# EAGLE library part EFM32TG210F8 (library EnergyMicro)
EFM32TG210F8 Tiny Microcontroller in 6mm x 6mm QFN32 package
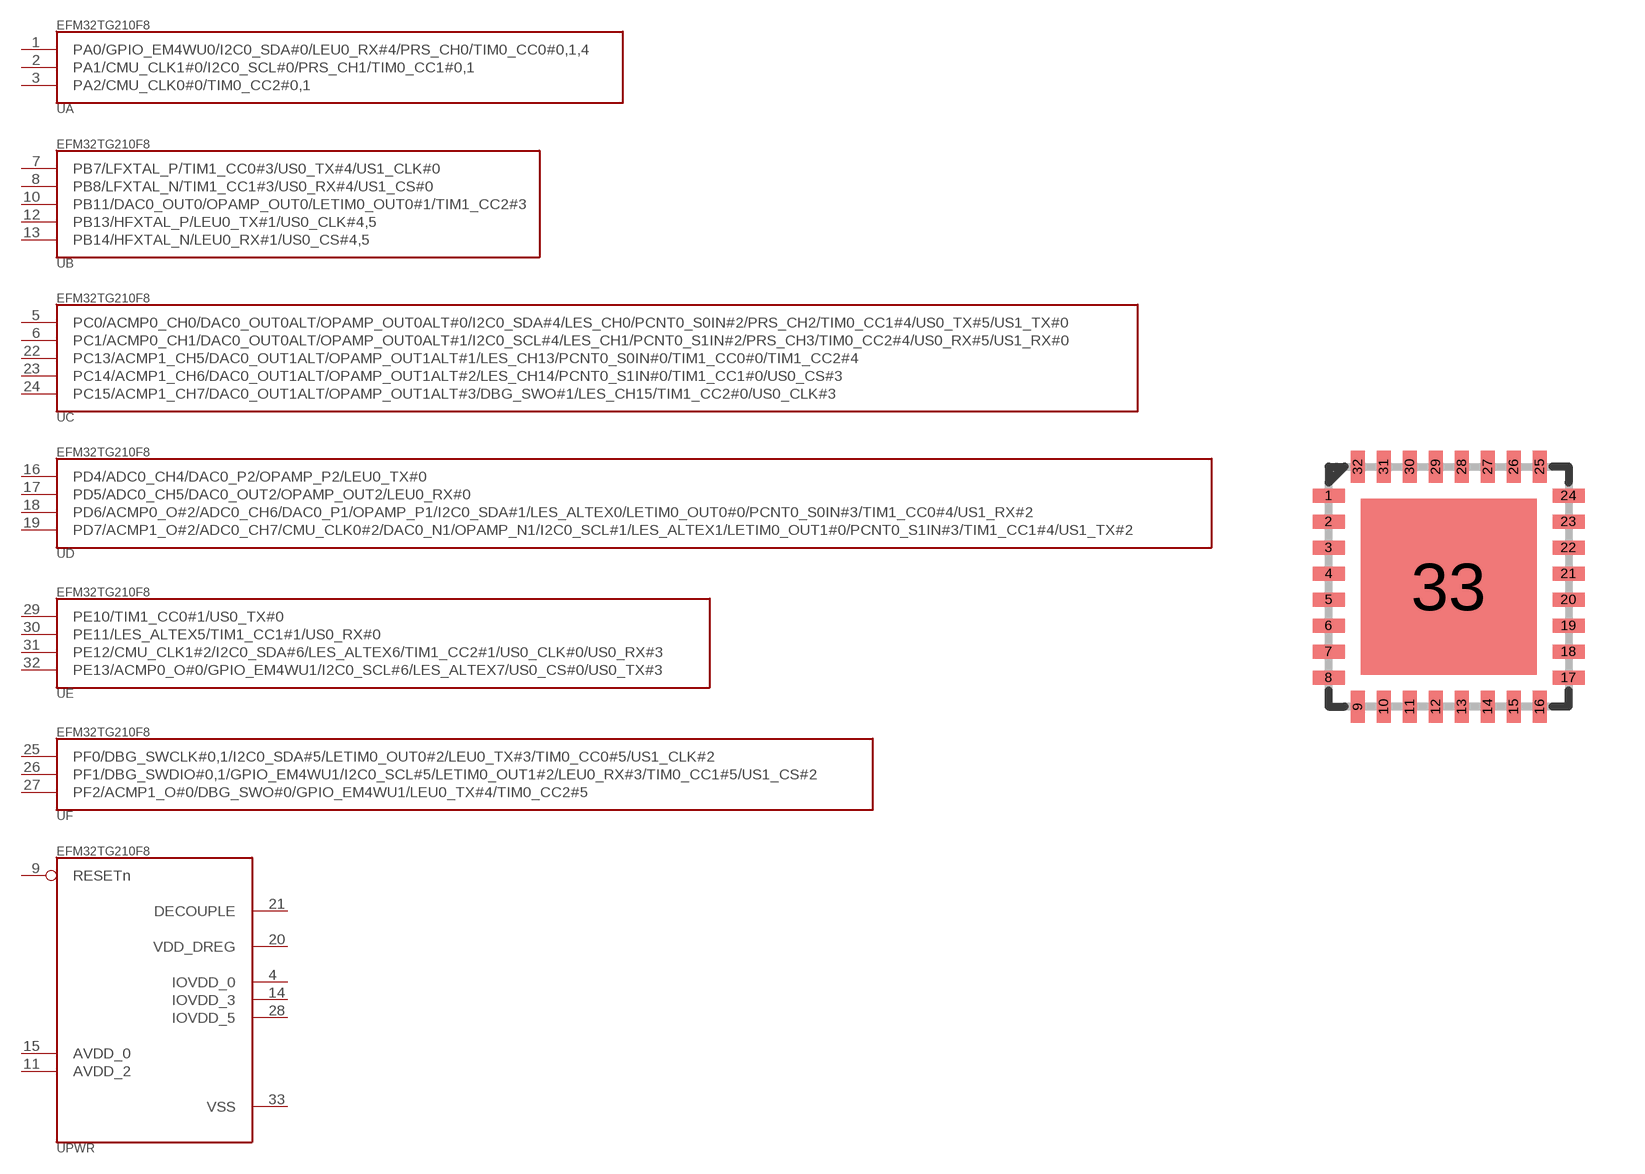
[diagram p125: symbol with the pads of QFN32; footprint QFN32]

Designator prefix -; gates A=EFM32TG210F8_A B=EFM32TG210F8_B C=EFM32TG210F8_C D=EFM32TG210F8_D E=EFM32TG210F8_E F=EFM32TG210F8_F PWR=EFM32TG210F8_PWR

## EFM32TG210F8  [QFN32]
1  A:PA0/GPIO_EM4WU0/I2C0_SDA#0/LEU0_RX#4/PRS_CH0/TIM0_CC0#0,1,4
2  A:PA1/CMU_CLK1#0/I2C0_SCL#0/PRS_CH1/TIM0_CC1#0,1
3  A:PA2/CMU_CLK0#0/TIM0_CC2#0,1
4  PWR:IOVDD_0  pwr
5  C:PC0/ACMP0_CH0/DAC0_OUT0ALT/OPAMP_OUT0ALT#0/I2C0_SDA#4/LES_CH0/PCNT0_S0IN#2/PRS_CH2/TIM0_CC1#4/US0_TX#5/US1_TX#0
6  C:PC1/ACMP0_CH1/DAC0_OUT0ALT/OPAMP_OUT0ALT#1/I2C0_SCL#4/LES_CH1/PCNT0_S1IN#2/PRS_CH3/TIM0_CC2#4/US0_RX#5/US1_RX#0
7  B:PB7/LFXTAL_P/TIM1_CC0#3/US0_TX#4/US1_CLK#0
8  B:PB8/LFXTAL_N/TIM1_CC1#3/US0_RX#4/US1_CS#0
9  PWR:RESETn  pas
10  B:PB11/DAC0_OUT0/OPAMP_OUT0/LETIM0_OUT0#1/TIM1_CC2#3
11  PWR:AVDD_2  pwr
12  B:PB13/HFXTAL_P/LEU0_TX#1/US0_CLK#4,5
13  B:PB14/HFXTAL_N/LEU0_RX#1/US0_CS#4,5
14  PWR:IOVDD_3  pwr
15  PWR:AVDD_0  pwr
16  D:PD4/ADC0_CH4/DAC0_P2/OPAMP_P2/LEU0_TX#0
17  D:PD5/ADC0_CH5/DAC0_OUT2/OPAMP_OUT2/LEU0_RX#0
18  D:PD6/ACMP0_O#2/ADC0_CH6/DAC0_P1/OPAMP_P1/I2C0_SDA#1/LES_ALTEX0/LETIM0_OUT0#0/PCNT0_S0IN#3/TIM1_CC0#4/US1_RX#2
19  D:PD7/ACMP1_O#2/ADC0_CH7/CMU_CLK0#2/DAC0_N1/OPAMP_N1/I2C0_SCL#1/LES_ALTEX1/LETIM0_OUT1#0/PCNT0_S1IN#3/TIM1_CC1#4/US1_TX#2
20  PWR:VDD_DREG  pwr
21  PWR:DECOUPLE  pwr
22  C:PC13/ACMP1_CH5/DAC0_OUT1ALT/OPAMP_OUT1ALT#1/LES_CH13/PCNT0_S0IN#0/TIM1_CC0#0/TIM1_CC2#4
23  C:PC14/ACMP1_CH6/DAC0_OUT1ALT/OPAMP_OUT1ALT#2/LES_CH14/PCNT0_S1IN#0/TIM1_CC1#0/US0_CS#3
24  C:PC15/ACMP1_CH7/DAC0_OUT1ALT/OPAMP_OUT1ALT#3/DBG_SWO#1/LES_CH15/TIM1_CC2#0/US0_CLK#3
25  F:PF0/DBG_SWCLK#0,1/I2C0_SDA#5/LETIM0_OUT0#2/LEU0_TX#3/TIM0_CC0#5/US1_CLK#2
26  F:PF1/DBG_SWDIO#0,1/GPIO_EM4WU1/I2C0_SCL#5/LETIM0_OUT1#2/LEU0_RX#3/TIM0_CC1#5/US1_CS#2
27  F:PF2/ACMP1_O#0/DBG_SWO#0/GPIO_EM4WU1/LEU0_TX#4/TIM0_CC2#5
28  PWR:IOVDD_5  pwr
29  E:PE10/TIM1_CC0#1/US0_TX#0
30  E:PE11/LES_ALTEX5/TIM1_CC1#1/US0_RX#0
31  E:PE12/CMU_CLK1#2/I2C0_SDA#6/LES_ALTEX6/TIM1_CC2#1/US0_CLK#0/US0_RX#3
32  E:PE13/ACMP0_O#0/GPIO_EM4WU1/I2C0_SCL#6/LES_ALTEX7/US0_CS#0/US0_TX#3
33  PWR:VSS  pwr

## Footprint QFN32 (pad centres in mm)
smd 0.8 x 0.35: 1 -3,2.275; 2 -3,1.625; 3 -3,0.975; 4 -3,0.325; 5 -3,-0.325; 6 -3,-0.975; 7 -3,-1.625; 8 -3,-2.275; 17 3,-2.275; 18 3,-1.625; 19 3,-0.975; 20 3,-0.325; 21 3,0.325; 22 3,0.975; 23 3,1.625; 24 3,2.275
smd 0.35 x 0.8: 9 -2.275,-3; 10 -1.625,-3; 11 -0.975,-3; 12 -0.325,-3; 13 0.325,-3; 14 0.975,-3; 15 1.625,-3; 16 2.275,-3; 25 2.275,3; 26 1.625,3; 27 0.975,3; 28 0.325,3; 29 -0.325,3; 30 -0.975,3; 31 -1.625,3; 32 -2.275,3
smd 4.4 x 4.4: 33 0,0